# EAGLE library part 691311500011 (library Terminal_Blocks_Connectors_rev15e)
WR-TBL Serie 311 - 5.08 mm Open Vertical PCB Header , 11 Pins=>Code : Con_TBL_Pluggable_5.08_PCB_THT_Simple_V_691311500011 <http://katalog.we-online.de/media/images/eican/Con_TBL_Pluggable_5.08_PCB_THT_Simple_V_6913115000xx_pf2.jpg> Details see: http://katalog.we-online.de/en/em/691_311_500_0xx Created 2014-06-23, Karrer Zheng 2014 (C) Würth Elektronik
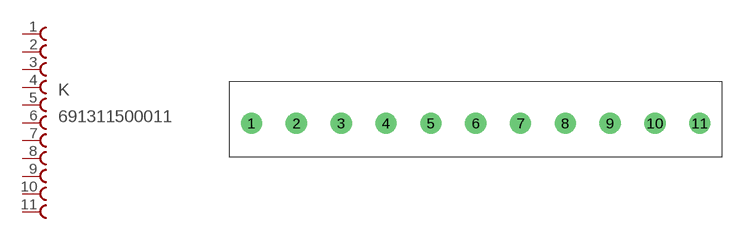
[diagram p96: symbol with the pads of 691311500011; footprint 691311500011]

Designator prefix K

## 691311500011  [691311500011]
1  1  pas
2  2  pas
3  3  pas
4  4  pas
5  5  pas
6  6  pas
7  7  pas
8  8  pas
9  9  pas
10  10  pas
11  11  pas

## Footprint 691311500011 (pad centres in mm)
WR-TBL Serie 311 - 5.08 mm Open Vertical PCB Header , 11 Pins
drill 1.6: 1 -45.72,0; 2 -40.64,0; 3 -35.56,0; 4 -30.48,0; 5 -25.4,0; 6 -20.32,0; 7 -15.24,0; 8 -10.16,0; 9 -5.08,0; 10 0,0; 11 5.08,0